# Altium footprint library sod_123_268x130x115.PcbLib: 1 footprints
Each footprint in its own frame and in the unit in brackets; x right, y up, seen from the top. Pads: shape width x height; smd on the part's side, far side on the other; paste and mask are expansions set on the pad; w line width, h text height; cw(c..) or ccw(c..) is an arc to the next point about the centre after c.
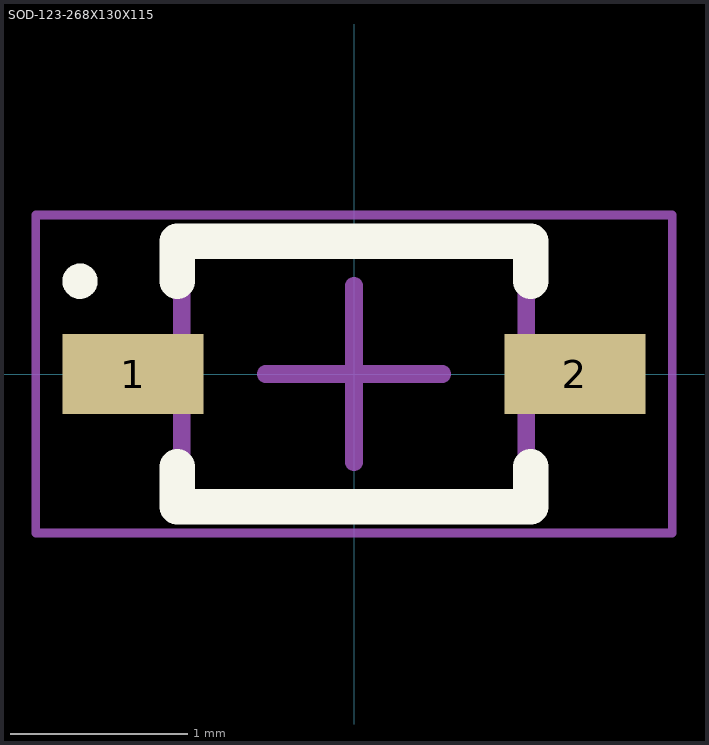
[diagram p0: the footprint, top view; thin cyan lines are the x and y axes]

## SOD-123-268X130X115 [mm] "SODFL, 2-Leads, Body 1,30x2,67mm, IPC Medium Density"
height 1.15
pads (2):
  rect 0.8x0.45 smd: 1(-1.25,0) 2(1.25,0)
Top Overlay:
  circle w0.1: c-1.55,0.525 r0.05
  lines w0.2: -1,-0.525 -1,-0.75 1,-0.75 1,-0.525 ; -1,0.525 -1,0.75 1,0.75 1,0.525
Top Comment:
  text ".Comment" at 0.889,1.27 h1.2
Top Designator:
  text ".Designator" at -0.254,1.27 h1.2
Top Component Outline:
  lines w0.1: -0.975,-0.75 -0.975,0.75 0.975,0.75 0.975,-0.75 -0.975,-0.75
Top Courtyard (Mech15):
  lines w0.05: -1.8,-0.9 -1.8,0.9 1.8,0.9 1.8,-0.9 -1.8,-0.9
  lines w0.1: -0.5,0 0.5,0 ; 0,-0.5 0,0.5
3D body "SOD-323_J.stp": height 0.94, standoff -0.01, extent -1.342,-0.65 1.342,0.65